# EAGLE library part USBLC6-2P6 (library USBLC6-2P6)
The USBLC6-2SC6 and USBLC6-2P6 are monolithic application specific devices dedicated to ESD protection of high speed interfaces, such as USB 2.0, Ethernet links and video lines. The very low line capacitance secures a high level of signal integrity without compromising in protecting sensitive chips against the most stringently characterized ESD strikes
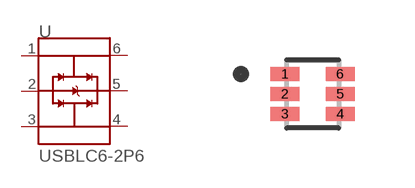
[diagram p0: symbol with the pads of SOT50P160X60-6N; footprint SOT50P160X60-6N]

Designator prefix U

## USBLC6-2P6 (Availability: Good; Description: USBLC6 Series 2 Line 6 V SMT Bi Directional ESD Protection - SOT-666; MF: STMicroelectronics; MP: USBLC6-2P6; Package: SOT-563 STMicroelectronics; Price: 0.25 USD)  [SOT50P160X60-6N]
1  I/O1_1
2  GND  pwr
3  I/O2_1
4  I/O2_2
5  VBUS  pwr
6  I/O1_2

## Footprint SOT50P160X60-6N (pad centres in mm)
smd 0.75 x 0.35: 1 -0.69,0.5; 2 -0.69,0; 3 -0.69,-0.5; 4 0.69,-0.5; 5 0.69,0; 6 0.69,0.5